# Altium schematic symbol library Panasonic-P5KS.SchLib: 2 symbols
Pins are listed as number, name and electrical type; pins without a type are passive.

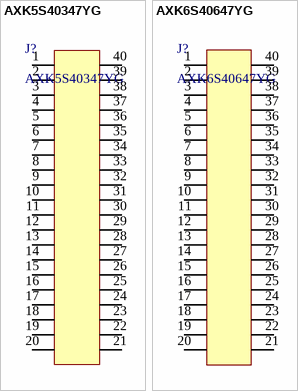
[diagram p0: symbols AXK5S40347YG to AXK6S40647YG]

## AXK5S40347YG
designator J?
P5KS(0.5mm间距)板对板连接器  组合高度（7.0/8.0/9.0）
footprint AXK5S40347YG
pins: 1, 2, 3, 4, 5, 6, 7, 8, 9, 10, 11, 12, 13, 14, 15, 16, 17, 18, 19, 20, 21, 22, 23, 24, 25, 26, 27, 28, 29, 30, 31, 32, 33, 34, 35, 36, 37, 38, 39, 40

## AXK6S40647YG
designator J?
P5KS(0.5mm间距)板对板连接器  组合高度（6.0/6.5/9.0）
footprint AXK6S40647YG
pins: 1, 2, 3, 4, 5, 6, 7, 8, 9, 10, 11, 12, 13, 14, 15, 16, 17, 18, 19, 20, 21, 22, 23, 24, 25, 26, 27, 28, 29, 30, 31, 32, 33, 34, 35, 36, 37, 38, 39, 40